# EAGLE library part CH340E (library MyLibrary)
USB to TTL IC
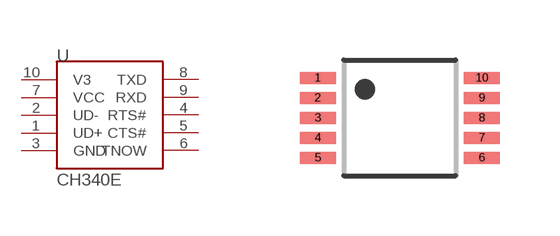
[diagram p12: symbol with the pads of MSOP10; footprint MSOP10]

Designator prefix U

## CH340E  [MSOP10]
1  UD+
2  UD-
3  GND
4  RTS#
5  CTS#
6  TNOW
7  VCC
8  TXD  out
9  RXD  in
10  V3

## Footprint MSOP10 (pad centres in mm)
smd 0.9 x 0.3: 1 -2.055,1; 2 -2.055,0.5; 3 -2.055,0; 4 -2.055,-0.5; 5 -2.055,-1; 6 2.055,-1; 7 2.055,-0.5; 8 2.055,0; 9 2.055,0.5; 10 2.055,1